# Altium schematic symbol library mic5019.SchLib: 1 symbol
Pins are listed as number, name and electrical type; pins without a type are passive.

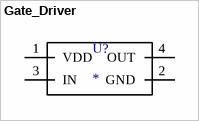
[diagram p0: symbol Gate_Driver]

## Gate_Driver
designator U?
pins: 1 VDD, 2 GND, 3 IN, 4 OUT